# EAGLE library part 467651001 (library Air_Link)
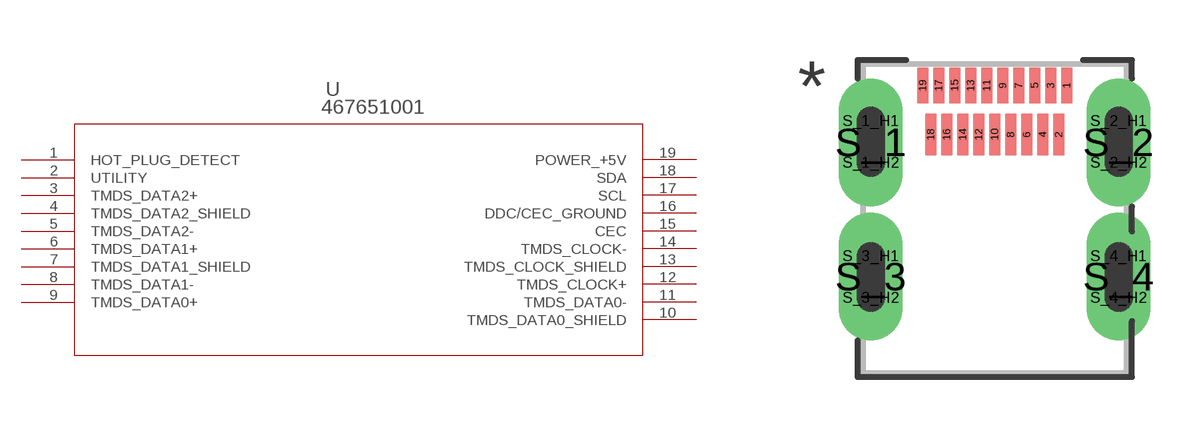
[diagram p0: symbol with the pads of 46765-1001_MOL; footprint 46765-1001_MOL]

Designator prefix U

## 467651001 (COPYRIGHT: Copyright (C) 2025 Ultra Librarian. All rights reserved.; MANUFACTURER_PART_NUMBER: 467651001; MFR_NAME: Molex Connector Corporation)  [46765-1001_MOL]
1  HOT_PLUG_DETECT  pas
2  UTILITY  pas
3  TMDS_DATA2+
4  TMDS_DATA2_SHIELD
5  TMDS_DATA2-
6  TMDS_DATA1+
7  TMDS_DATA1_SHIELD
8  TMDS_DATA1-
9  TMDS_DATA0+
10  TMDS_DATA0_SHIELD
11  TMDS_DATA0-
12  TMDS_CLOCK+  pas
13  TMDS_CLOCK_SHIELD  pas
14  TMDS_CLOCK-  pas
15  CEC  pas
16  DDC/CEC_GROUND  pas
17  SCL  pas
18  SDA  pas
19  POWER_+5V  pwr

## Footprint 46765-1001_MOL (pad centres in mm)
smd 0.279 x 0.889: 1 1.8,3.323; 3 1.4,3.323; 5 1,3.323; 7 0.6,3.323; 9 0.2,3.323; 11 -0.2,3.323; 13 -0.6,3.323; 15 -1,3.323; 17 -1.4,3.323; 19 -1.8,3.323
smd 0.279 x 1.041: 2 1.6,2.098; 4 1.2,2.098; 6 0.8,2.098; 8 0.4,2.098; 10 0,2.098; 12 -0.4,2.098; 14 -0.8,2.098; 16 -1.2,2.098; 18 -1.6,2.098
drill 0.025 pad 1.6 long: S_1 -3.099,1.905; S_2 3.099,1.905; S_3 -3.099,-1.448; S_4 3.099,-1.448
drill 0.711 pad 0.711: S_1_H1 -3.099,2.438; S_1_H2 -3.099,1.397; S_2_H1 3.099,2.438; S_2_H2 3.099,1.397; S_3_H1 -3.099,-0.94; S_3_H2 -3.099,-1.981; S_4_H1 3.099,-0.94; S_4_H2 3.099,-1.981